# EAGLE library part XTEND-900 (library SDSURocket-BreakoutBoards)
XTend 900 Header Layout Layout for the XTend 900 Radio. Pins are arranged so the radio can be mounted face down (silver cover) against the PCB. SparkFun Part #: WRL-09411 <https://www.sparkfun.com/products/9411>
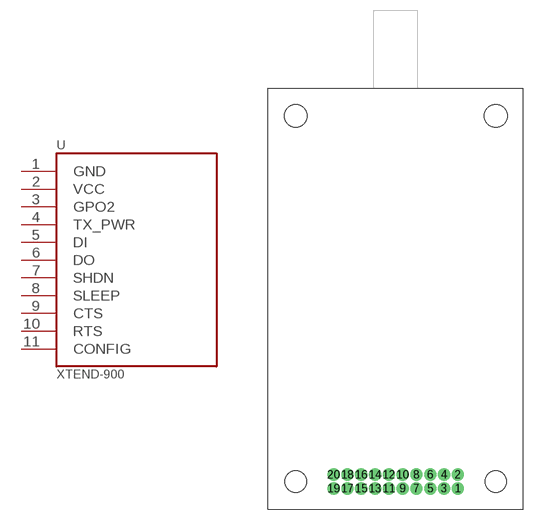
[diagram p2: symbol with the pads of XTEND-900; footprint XTEND-900]

Designator prefix -

## XTEND-900-BREAKOUT  [XTEND-900]
1  GND  pwr
2  VCC  pwr
3  GPO2
4  TX_PWR
5  DI
6  DO
7  SHDN
8  SLEEP
9  CTS
10  RTS
11  CONFIG

## Footprint XTEND-900 (pad centres in mm)
XTend 900 Header Layout Layout for the XTend 900 Radio. Pins are arranged so the radio can be mounted face down (silver cover) against the PCB. SparkFun Part #: WRL-09411 <https://www.sparkfun.com/products/9411>
drill 1.016 pad 1.778: 1 9,-27.5; 2 9,-25.5; 3 7,-27.5; 4 7,-25.5; 5 5,-27.5; 6 5,-25.5; 7 3,-27.5; 8 3,-25.5; 9 1,-27.5; 10 1,-25.5; 11 -1,-27.5; 12 -1,-25.5; 13 -3,-27.5; 14 -3,-25.5; 15 -5,-27.5; 16 -5,-25.5; 17 -7,-27.5; 18 -7,-25.5; 19 -9,-27.5; 20 -9,-25.5
hole 3.048 at -14.5,-26.5
hole 3.048 at 14.5,-26.5
hole 3.302 at -14.5,26.5
hole 3.302 at 14.5,26.5